# Altium schematic symbol library Бібліотека1.SchLib: 8 symbols
Pins are listed as number, name and electrical type; pins without a type are passive.

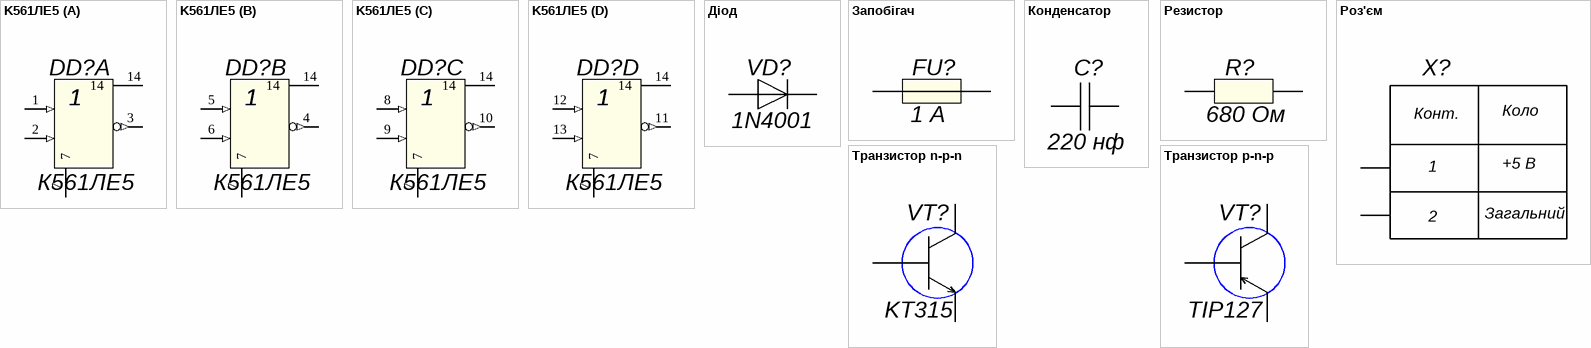
[diagram p0: symbols K561ЛЕ5 to Транзистор p-n-p]

## K561ЛЕ5
designator DD?, comment К561ЛЕ5
pins on every part: 7 (power) hidden to GND, 14 (power) hidden to VCC
part A pins: 1 (in), 2 (in), 3 (out)
part B pins: 4 (out), 5 (in), 6 (in)
part C pins: 8 (in), 9 (in), 10 (out)
part D pins: 11 (out), 12 (in), 13 (in)

## Діод
designator VD?, comment 1N4001
pins: 1, 2

## Запобігач
designator FU?, comment 1 А
pins: 1, 2

## Конденсатор
designator C?, comment 220 нф
pins: 1, 2

## Резистор
designator R?, comment 680 Ом
pins: 1, 2

## Роз'єм
designator X?  (value not drawn)
pins: 1, 2
text: Конт.; Коло; +5 В; Загальний

## Транзистор n-p-n
designator VT?, comment KT315
pins: 1, 2, 3

## Транзистор p-n-p
designator VT?, comment TIP127
pins: 1, 2, 3